# Altium footprint library My_Library.PcbLib: 118 footprints (part 1 of 8)
Each footprint in its own frame and in the unit in brackets; x right, y up, seen from the top. Pads: shape width x height; smd on the part's side, far side on the other; paste and mask are expansions set on the pad; w line width, h text height; cw(c..) or ccw(c..) is an arc to the next point about the centre after c.
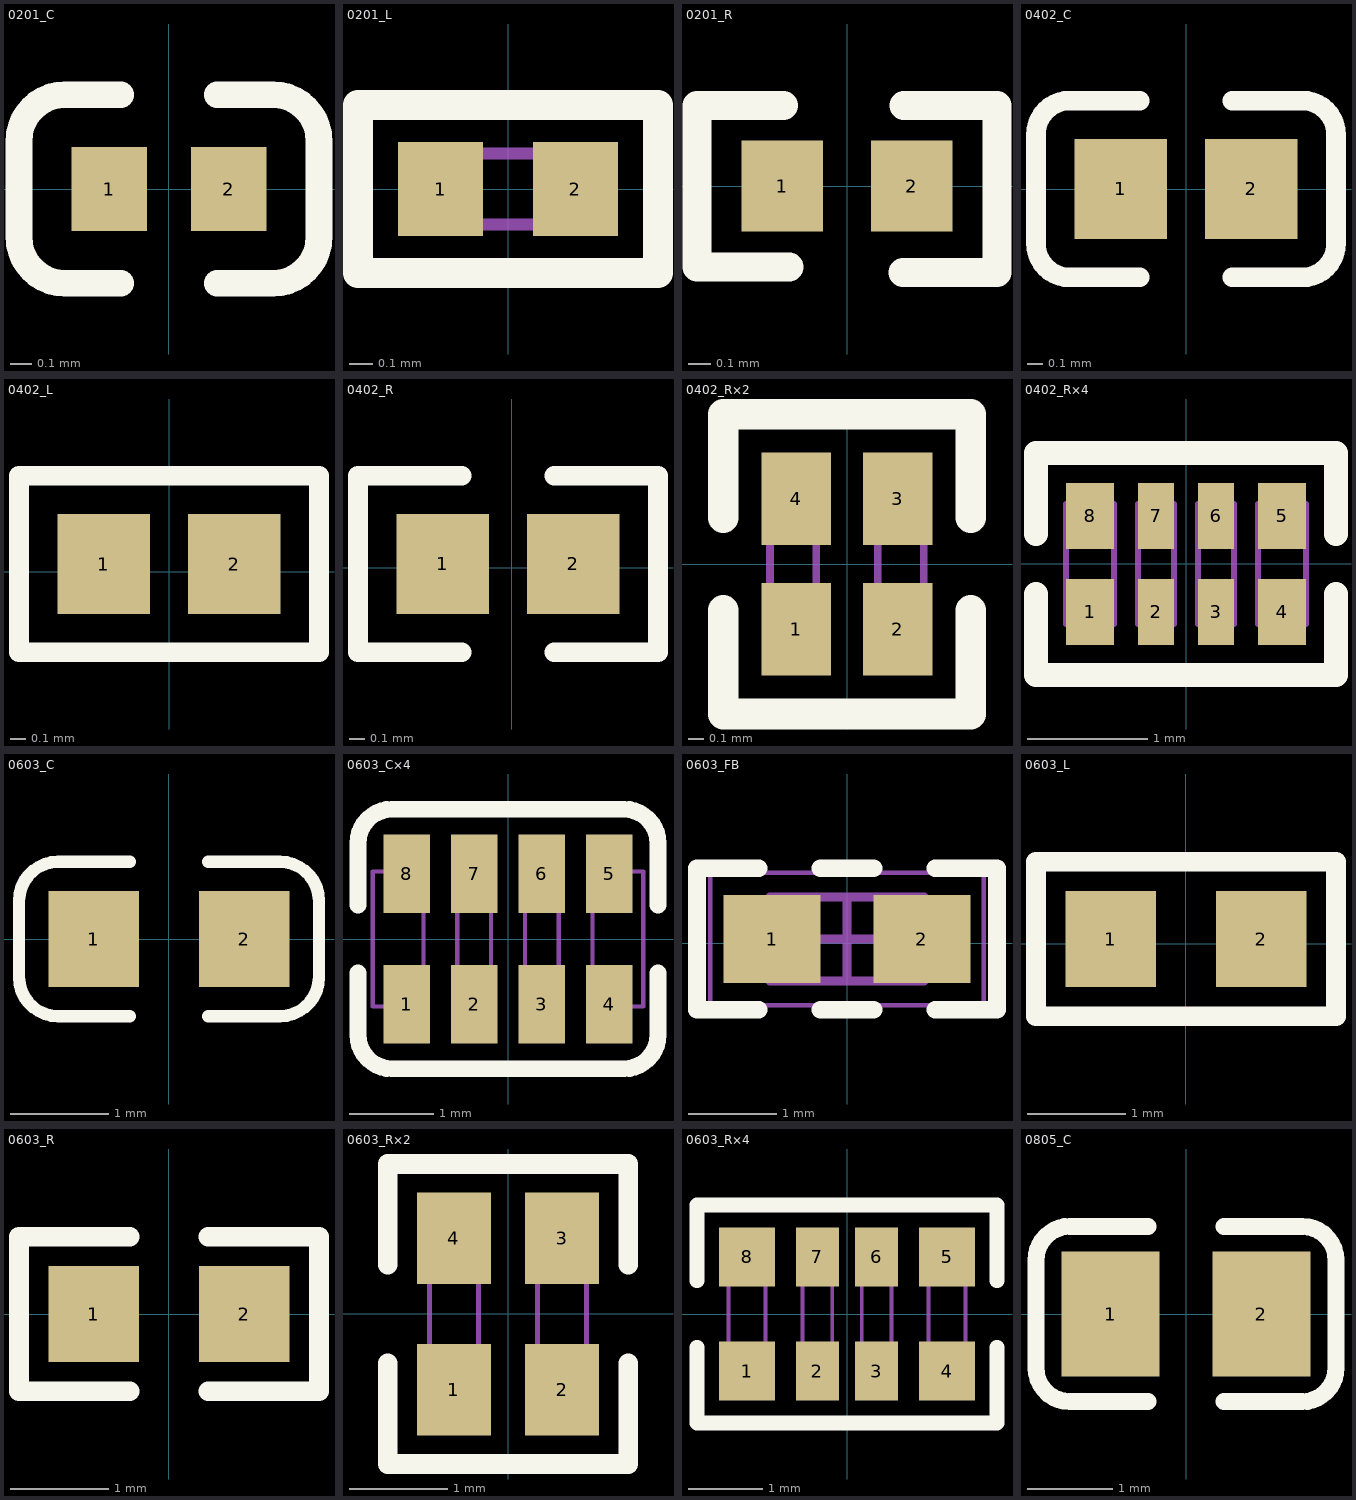
[diagram p0: the footprints below, top view; thin cyan lines are the x and y axes]

## 0201_C [mm]
pads (2):
  rect 0.36x0.4 smd mask+0.051: 1(-0.285,0) 2(0.285,0)
Top Overlay:
  lines w0.127: -0.23,-0.45 -0.495,-0.45 cw(c-0.495,-0.23) -0.715,-0.23 -0.715,0.23 cw(c-0.495,0.23) -0.495,0.45 -0.23,0.45 ; 0.23,-0.45 0.495,-0.45 ccw(c0.495,-0.23) 0.715,-0.23 0.715,0.23 ccw(c0.495,0.23) 0.495,0.45 0.23,0.45
3D body "User Library-0201(0603M) Cap.step": height 0.31, standoff 0, extent -0.305,-0.152 0.305,0.153

## 0201_L [mm]
pads (2):
  rect 0.36x0.4 smd mask+0.051: 1(-0.285,0) 2(0.285,0)
Top Overlay:
  lines w0.127: -0.635,-0.356 0.635,-0.356 0.635,0.356 -0.635,0.356 -0.635,-0.356
Mechanical 13:
  lines w0.05: -0.3,-0.15 -0.3,0.15 0.3,0.15 0.3,-0.15 -0.3,-0.15

## 0201_R [mm]
pads (2):
  rect 0.36x0.4 smd mask+0.051: 1(-0.285,0) 2(0.285,0)
Top Overlay:
  lines w0.127: -0.279,0.356 -0.66,0.356 -0.66,-0.356 -0.254,-0.356 ; 0.246,-0.381 0.66,-0.381 0.66,0.356 0.25,0.356
3D body "User Library-RES_0603-0201.STEP": height 0.34, standoff 0, extent -0.34,-0.165 0.34,0.165

## 0402_C [mm]
pads (2):
  rect 0.6x0.65 smd mask+0.051: 1(-0.425,0) 2(0.425,0)
Top Overlay:
  lines w0.127: -0.755,-0.575 cw(c-0.755,-0.355) -0.975,-0.355 -0.975,0.355 cw(c-0.755,0.355) -0.755,0.575 ; -0.75,-0.575 -0.3,-0.575 ; -0.75,0.575 -0.3,0.575 ; 0.3,-0.575 0.75,-0.575 ; 0.3,0.575 0.75,0.575 ; 0.755,-0.575 ccw(c0.755,-0.355) 0.975,-0.355 0.975,0.355 ccw(c0.755,0.355) 0.755,0.575
3D body "0402 SMD Capacitor.step": height 0.2, standoff 0, extent -0.483,-0.3 0.518,0.3

## 0402_L [mm]
pads (2):
  rect 0.6x0.65 smd mask+0.051: 1(-0.425,0.05) 2(0.425,0.05)
Top Overlay:
  lines w0.127: -0.975,-0.525 -0.975,0.625 0.975,0.625 0.975,-0.525 -0.975,-0.525
3D body "L0402.STEP": height 0.36, standoff -0.01, extent -0.49,-0.212 0.515,0.313

## 0402_R [mm]
pads (2):
  rect 0.6x0.65 smd mask+0.051: 1(-0.45,0.025) 2(0.4,0.025)
Top Overlay:
  lines w0.127: -0.325,-0.55 -1,-0.55 -1,0.6 -0.325,0.6 ; 0.275,-0.55 0.95,-0.55 0.95,0.6 0.275,0.6
3D body "User Library-RES_1005-0402.STEP": height 0.41, standoff 0, extent -0.6,-0.25 0.55,0.3

## 0402_R×2 [mm]
pads (4):
  rect 0.45x0.6 smd mask+0.051: 1(-0.33,-0.425) 2(0.33,-0.425) 3(0.33,0.425) 4(-0.33,0.425)
Top Overlay:
  lines w0.2: -0.805,-0.3 -0.805,-0.975 0.805,-0.975 0.805,-0.3 ; -0.805,0.3 -0.805,0.975 0.805,0.975 0.805,0.3
Mechanical 13:
  lines w0.05: -0.5,-0.5 -0.2,-0.5 -0.2,0.5 -0.5,0.5 -0.5,-0.5 ; 0.2,-0.5 0.5,-0.5 0.5,0.5 0.2,0.5 0.2,-0.5
3D body "User Library-YC122.STEP": height 0.35, standoff 0, extent -0.5,-0.5 0.5,0.5

## 0402_R×4 [mm]
pads (8):
  rect 0.4x0.55 smd mask+0.051: 1(-0.8,-0.4) 4(0.8,-0.4) 5(0.8,0.4) 8(-0.8,0.4)
  rect 0.3x0.55 smd mask+0.051: 2(-0.25,-0.4) 3(0.25,-0.4) 6(0.25,0.4) 7(-0.25,0.4)
Top Overlay:
  lines w0.2: -1.25,-0.25 -1.25,-0.925 1.25,-0.925 1.25,-0.25 ; -1.25,0.25 -1.25,0.925 1.25,0.925 1.25,0.25
Mechanical 13:
  lines w0.05: -1,-0.5 -0.6,-0.5 ; -1,-0.5 -1,0.5 -0.6,0.5 -0.6,-0.5 ; -1,-0.5 -0.6,-0.5 ; -0.4,-0.5 -0.4,0.5 -0.1,0.5 -0.1,-0.5 -0.4,-0.5 ; 0.1,-0.5 0.1,0.5 0.4,0.5 0.4,-0.5 0.1,-0.5 ; 0.6,-0.5 0.6,0.5 1,0.5 1,-0.5 0.6,-0.5
3D body "User Library-YC124-1.step": height 0.45, standoff 0, extent -1,-0.5 1,0.5

## 0603_C [mm]
pads (2):
  rect 0.93x0.98 smd: 1(-0.77,0) 2(0.77,0)
Top Overlay:
  lines w0.127: -0.4,-0.79 -1.135,-0.79 cw(c-1.135,-0.39) -1.535,-0.39 -1.535,0.39 cw(c-1.135,0.39) -1.135,0.79 -0.4,0.79 ; 0.4,-0.79 1.135,-0.79 ccw(c1.135,-0.39) 1.535,-0.39 1.535,0.39 ccw(c1.135,0.39) 1.135,0.79 0.4,0.79
3D body "User Library-0603 SMD Capacitor.STEP": height 0.3, standoff 0, extent -0.8,-0.4 0.8,0.4

## 0603_C×4 [mm]
pads (8):
  rect 0.55x0.93 smd mask+0.051: 1(-1.2,-0.77) 2(-0.4,-0.77) 3(0.4,-0.77) 4(1.2,-0.77) 5(1.2,0.77) 6(0.4,0.77) 7(-0.4,0.77) 8(-1.2,0.77)
Top Overlay:
  lines w0.2: -1.775,-0.4 -1.775,-1.135 ccw(c-1.375,-1.135) -1.375,-1.535 1.375,-1.535 ccw(c1.375,-1.135) 1.775,-1.135 1.775,-0.4 ; -1.775,0.4 -1.775,1.135 cw(c-1.375,1.135) -1.375,1.535 1.375,1.535 cw(c1.375,1.135) 1.775,1.135 1.775,0.4
Mechanical 13:
  lines w0.05: -1.6,-0.8 -1,-0.8 -1,0.8 -1.6,0.8 -1.6,-0.8 ; -0.6,-0.8 -0.2,-0.8 -0.2,0.8 -0.6,0.8 -0.6,-0.8 ; 0.2,-0.8 0.6,-0.8 0.6,0.8 0.2,0.8 0.2,-0.8 ; 1,-0.8 1.6,-0.8 1.6,0.8 1,0.8 1,-0.8

## 0603_FB [mm]
pads (2):
  rect 1.1x1 smd: 1(-0.85,0.05) 2(0.85,0.05)
Top Overlay:
  lines w0.2: -1,-0.75 -1.7,-0.75 -1.7,0.85 -1,0.85 ; -0.3,-0.75 0.3,-0.75 ; -0.3,0.85 0.3,0.85 ; 1,-0.75 1.7,-0.75 1.7,0.85 1,0.85
Mechanical 13:
  lines w0.1: -0.875,-0.425 0.875,-0.425 0.875,0.525 -0.875,0.525 -0.875,-0.425
Mechanical 15:
  lines w0.05: -1.55,-0.7 1.55,-0.7 1.55,0.8 -1.55,0.8 -1.55,-0.7
  lines w0.1: -0.475,0.05 0.475,0.05 ; 0,-0.425 0,0.525
3D body: height 0.85, standoff 0, extent 0.329,-0.425 0.874,0.524
3D body: height 0.85, standoff 0, extent -0.874,-0.424 -0.329,0.524
3D body: height 0.85, standoff 0, extent -0.525,-0.425 0.525,0.525

## 0603_L [mm]
pads (2):
  rect 0.93x0.98 smd: 1(-0.77,0.05) 2(0.77,0.05)
Top Overlay:
  lines w0.2: -1.535,-0.74 -1.535,0.84 1.535,0.84 1.535,-0.74 -1.535,-0.74
3D body "L0603.STEP": height 0.46, standoff -0.01, extent -0.802,-0.362 0.802,0.463

## 0603_R [mm]
pads (2):
  rect 0.93x0.98 smd: 1(-0.77,0) 2(0.77,0)
Top Overlay:
  lines w0.2: -0.4,-0.79 -1.535,-0.79 -1.535,0.79 -0.4,0.79 ; 0.4,-0.79 1.535,-0.79 1.535,0.79 0.4,0.79
3D body "User Library-RES_1609-0603.STEP": height 0.56, standoff 0, extent -0.85,-0.4 0.85,0.4

## 0603_R×2 [mm]
pads (4):
  rect 0.75x0.93 smd: 1(-0.55,-0.77) 2(0.55,-0.77) 3(0.55,0.77) 4(-0.55,0.77)
Top Overlay:
  lines w0.2: -1.225,-0.5 -1.225,-1.527 1.225,-1.527 1.225,-0.5 ; -1.225,0.5 -1.225,1.527 1.225,1.527 1.225,0.5
Mechanical 13:
  lines w0.05: -0.8,-0.8 -0.3,-0.8 -0.3,0.8 -0.8,0.8 -0.8,-0.8 ; 0.3,-0.8 0.8,-0.8 0.8,0.8 0.3,0.8 0.3,-0.8

## 0603_R×4 [mm]
pads (8):
  rect 0.75x0.8 smd mask+0.051: 1(-1.35,-0.77) 4(1.35,-0.77) 5(1.35,0.77) 8(-1.35,0.77)
  rect 0.58x0.8 smd mask+0.051: 2(-0.4,-0.77) 3(0.4,-0.77) 6(0.4,0.77) 7(-0.4,0.77)
Top Overlay:
  lines w0.2: -2.025,-0.45 -2.025,-1.47 2.025,-1.47 2.025,-0.45 ; -2.025,0.45 -2.025,1.47 2.025,1.47 2.025,0.45
Mechanical 13:
  lines w0.05: -1.6,-0.8 -1.1,-0.8 -1.1,0.8 -1.6,0.8 -1.6,-0.8 ; -0.6,-0.8 -0.2,-0.8 -0.2,0.8 -0.6,0.8 -0.6,-0.8 ; 0.2,-0.8 0.6,-0.8 0.6,0.8 0.2,0.8 0.2,-0.8 ; 1.1,-0.8 1.6,-0.8 1.6,0.8 1.1,0.8 1.1,-0.8
3D body "SW3dPS-RN164P.STEP": height 0.55, standoff 0, extent -1.6,-0.8 1.6,0.8

## 0805_C [mm]
pads (2):
  rect 1.16x1.47 smd: 1(-0.89,0) 2(0.89,0)
Top Overlay:
  lines w0.2: -0.45,-1.035 -1.37,-1.035 cw(c-1.37,-0.635) -1.77,-0.635 -1.77,0.635 cw(c-1.37,0.635) -1.37,1.035 -0.45,1.035 ; 0.45,-1.035 1.37,-1.035 ccw(c1.37,-0.635) 1.77,-0.635 1.77,0.635 ccw(c1.37,0.635) 1.37,1.035 0.45,1.035
3D body "User Library-0805 SMD Capacitor.STEP": height 0.77, standoff -0.01, extent -0.999,-0.625 1.001,0.625